# Altium schematic symbol library USB_HUB_VL813.SCHLIB: 27 symbols
Pins are listed as number, name and electrical type; pins without a type are passive.

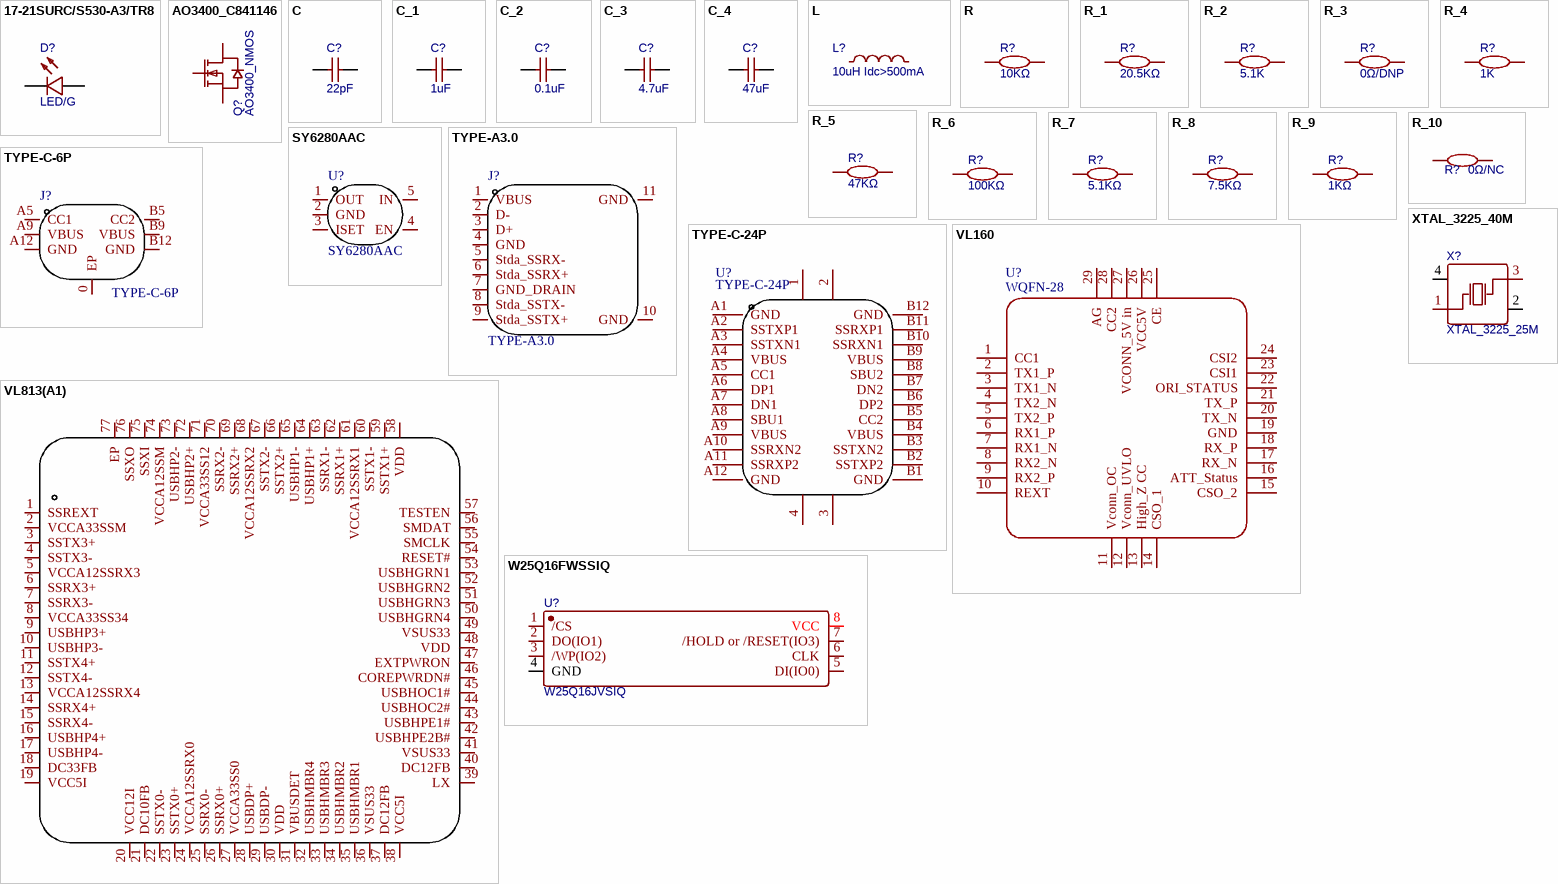
[diagram p0: symbols 17-21SURC/S530-A3/TR8 to XTAL_3225_40M]

## 17-21SURC/S530-A3/TR8
designator D?, comment LED/G
BOM_Manufacturer: EVERLIGHT; BOM_Manufacturer Part: 17-21SURC/S530-A3/TR8; BOM_Supplier: LCSC; BOM_Supplier Part: C72037; BOM_JLCPCB Part Class: Extended Part; spicePre: L; spiceSymbolName: 17-21SURC/S530-A3/TR8
footprint LED0805-R-RD
pins: 1 A, 2 C

## AO3400_C841146
designator Q?, comment AO3400_NMOS
BOM_Manufacturer: LGE; BOM_Manufacturer Part: AO3400; Contributor: LCSC; BOM_Supplier: LCSC; BOM_Supplier Part: C841146; BOM_JLCPCB Part Class: Extended Part; spicePre: Q; spiceSymbolName: AO3400_C841146
footprint SOT-23-3_L2.9-W1.3-P1.90-LS2.4-BR
pins: 1 G, 2 S, 3 D

## C
designator C?, comment 22pF
BOM_Manufacturer: FH; BOM_Manufacturer Part: 0603F104M500NT; nameAlias: Capacitance; BOM_Supplier: LCSC; BOM_Supplier Part: C42998; BOM_JLCPCB Part Class: Extended Part; spicePre: C; spiceSymbolName: 0603F104M500NT
footprint C0603
footprint C0805
pins: 1, 2

## C_1
designator C?, comment 1uF
BOM_Manufacturer: FH; BOM_Manufacturer Part: 0603F104M500NT; nameAlias: Capacitance; BOM_Supplier: LCSC; BOM_Supplier Part: C42998; BOM_JLCPCB Part Class: Extended Part; spicePre: C; spiceSymbolName: 0603F104M500NT
footprint C0603
footprint C0805
pins: 1, 2

## C_2
designator C?, comment 0.1uF
BOM_Manufacturer: FH; BOM_Manufacturer Part: 0603F104M500NT; nameAlias: Capacitance; BOM_Supplier: LCSC; BOM_Supplier Part: C42998; BOM_JLCPCB Part Class: Extended Part; spicePre: C; spiceSymbolName: 0603F104M500NT
footprint C0603
footprint C0805
pins: 1, 2

## C_3
designator C?, comment 4.7uF
BOM_Manufacturer: FH; BOM_Manufacturer Part: 0603F104M500NT; nameAlias: Capacitance; BOM_Supplier: LCSC; BOM_Supplier Part: C42998; BOM_JLCPCB Part Class: Extended Part; spicePre: C; spiceSymbolName: 0603F104M500NT
footprint C0603
footprint C0805
pins: 1, 2

## C_4
designator C?, comment 47uF
BOM_Manufacturer: FH; BOM_Manufacturer Part: 0603F104M500NT; nameAlias: Capacitance; BOM_Supplier: LCSC; BOM_Supplier Part: C42998; BOM_JLCPCB Part Class: Extended Part; spicePre: C; spiceSymbolName: 0603F104M500NT
footprint C5*5
footprint C0805
pins: 1, 2

## L
designator L?, comment 10uH Idc>500mA
BOM_Manufacturer Part: VHF160808H33NJT; BOM_Manufacturer: FH; nameAlias: Inductance; BOM_Supplier: LCSC; BOM_Supplier Part: C90209; BOM_JLCPCB Part Class: Extended Part; spicePre: L; spiceSymbolName: VHF160808H33NJT
footprint L0603
footprint Inductor
pins: 1, 2

## R
designator R?, comment 10KΩ
BOM_Manufacturer: Guangdong Fenghua Advanced Tech; BOM_Manufacturer Part: RS-03K1002FT; Resistance (Ohms): 10K; nameAlias: Resistance; Contributor: LCSC; BOM_Supplier: LCSC; BOM_Supplier Part: C115324; spicePre: R; spiceSymbolName: RS-03K1002FT
footprint R0603
footprint R0805
pins: 1, 2

## R_1
designator R?, comment 20.5KΩ
BOM_Manufacturer: Guangdong Fenghua Advanced Tech; BOM_Manufacturer Part: RS-03K1002FT; Resistance (Ohms): 10K; nameAlias: Resistance; Contributor: LCSC; BOM_Supplier: LCSC; BOM_Supplier Part: C115324; spicePre: R; spiceSymbolName: RS-03K1002FT
footprint R0603
footprint R0805
pins: 1, 2

## R_2
designator R?, comment 5.1K
BOM_Manufacturer: Guangdong Fenghua Advanced Tech; BOM_Manufacturer Part: RS-03K1002FT; Resistance (Ohms): 10K; nameAlias: Resistance; Contributor: LCSC; BOM_Supplier: LCSC; BOM_Supplier Part: C115324; spicePre: R; spiceSymbolName: RS-03K1002FT
footprint R0603
footprint R0805
pins: 1, 2

## R_3
designator R?, comment 0Ω/DNP
BOM_Manufacturer: Guangdong Fenghua Advanced Tech; BOM_Manufacturer Part: RS-03K1002FT; Resistance (Ohms): 10K; nameAlias: Resistance; Contributor: LCSC; BOM_Supplier: LCSC; BOM_Supplier Part: C115324; spicePre: R; spiceSymbolName: RS-03K1002FT
footprint R0603
footprint R0805
pins: 1, 2

## R_4
designator R?, comment 1K
BOM_Manufacturer: Guangdong Fenghua Advanced Tech; BOM_Manufacturer Part: RS-03K1002FT; Resistance (Ohms): 10K; nameAlias: Resistance; Contributor: LCSC; BOM_Supplier: LCSC; BOM_Supplier Part: C115324; spicePre: R; spiceSymbolName: RS-03K1002FT
footprint R0603
footprint R0805
pins: 1, 2

## R_5
designator R?, comment 47KΩ
BOM_Manufacturer: Guangdong Fenghua Advanced Tech; BOM_Manufacturer Part: RS-03K1002FT; Resistance (Ohms): 10K; nameAlias: Resistance; Contributor: LCSC; BOM_Supplier: LCSC; BOM_Supplier Part: C115324; spicePre: R; spiceSymbolName: RS-03K1002FT
footprint R0603
footprint R0805
pins: 1, 2

## R_6
designator R?, comment 100KΩ
BOM_Manufacturer: Guangdong Fenghua Advanced Tech; BOM_Manufacturer Part: RS-03K1002FT; Resistance (Ohms): 10K; nameAlias: Resistance; Contributor: LCSC; BOM_Supplier: LCSC; BOM_Supplier Part: C115324; spicePre: R; spiceSymbolName: RS-03K1002FT
footprint R0603
footprint R0805
pins: 1, 2

## R_7
designator R?, comment 5.1KΩ
BOM_Manufacturer: Guangdong Fenghua Advanced Tech; BOM_Manufacturer Part: RS-03K1002FT; Resistance (Ohms): 10K; nameAlias: Resistance; Contributor: LCSC; BOM_Supplier: LCSC; BOM_Supplier Part: C115324; spicePre: R; spiceSymbolName: RS-03K1002FT
footprint R0603
footprint R0805
pins: 1, 2

## R_8
designator R?, comment 7.5KΩ
BOM_Manufacturer: Guangdong Fenghua Advanced Tech; BOM_Manufacturer Part: RS-03K1002FT; Resistance (Ohms): 10K; nameAlias: Resistance; Contributor: LCSC; BOM_Supplier: LCSC; BOM_Supplier Part: C115324; spicePre: R; spiceSymbolName: RS-03K1002FT
footprint R0603
footprint R0805
pins: 1, 2

## R_9
designator R?, comment 1KΩ
BOM_Manufacturer: Guangdong Fenghua Advanced Tech; BOM_Manufacturer Part: RS-03K1002FT; Resistance (Ohms): 10K; nameAlias: Resistance; Contributor: LCSC; BOM_Supplier: LCSC; BOM_Supplier Part: C115324; spicePre: R; spiceSymbolName: RS-03K1002FT
footprint R0603
footprint R0805
pins: 1, 2

## R_10
designator R?, comment 0Ω/NC
BOM_Manufacturer: Guangdong Fenghua Advanced Tech; BOM_Manufacturer Part: RS-03K1002FT; Resistance (Ohms): 10K; nameAlias: Resistance; Contributor: LCSC; BOM_Supplier: LCSC; BOM_Supplier Part: C115324; spicePre: R; spiceSymbolName: RS-03K1002FT
footprint R0603
footprint R0805
pins: 1, 2

## SY6280AAC
designator U?
footprint SOT-23-5_L3.0-W1.7-P0.95-LS2.8-BR
pins: 1 OUT, 2 GND, 3 ISET, 4 EN, 5 IN

## TYPE-A3.0
designator J?
footprint TYPE-A3.0
pins: 1 VBUS, 2 D-, 3 D+, 4 GND, 5 Stda_SSRX-, 6 Stda_SSRX+, 7 GND_DRAIN, 8 Stda_SSTX-, 9 Stda_SSTX+, 10 GND, 11 GND

## TYPE-C-6P
designator J?
footprint TYPE-C-6P
pins: 0 EP, A5 CC1, A9 VBUS, A12 GND, B5 CC2, B9 VBUS, B12 GND

## TYPE-C-24P
designator U?
Parameter 1: *
footprint TYPE-C-24P
pins: 1, 2, 3, 4, A1 GND, A2 SSTXP1, A3 SSTXN1, A4 VBUS, A5 CC1, A6 DP1, A7 DN1, A8 SBU1, A9 VBUS, A10 SSRXN2, A11 SSRXP2, A12 GND, B1 GND, B2 SSTXP2, B3 SSTXN2, B4 VBUS, B5 CC2, B6 DP2, B7 DN2, B8 SBU2, B9 VBUS, B10 SSRXN1, B11 SSRXP1, B12 GND

## VL160
designator U?, comment WQFN-28
footprint WQFN-28
footprint WQFN-28
pins: 1 CC1, 2 TX1_P, 3 TX1_N, 4 TX2_N, 5 TX2_P, 6 RX1_P, 7 RX1_N, 8 RX2_N, 9 RX2_P, 10 REXT, 11 Vconn_OC, 12 Vconn_UVLO, 13 High_Z CC, 14 CSO_1, 15 CSO_2, 16 ATT_Status, 17 RX_N, 18 RX_P, 19 GND, 20 TX_N, 21 TX_P, 22 ORI_STATUS, 23 CSI1, 24 CSI2, 25 CE, 26 VCC5V, 27 VCONN_5V in, 28 CC2, 29 AG

## VL813(A1)
designator U?  (value not drawn)
Manufacturer: VIA(台湾威盛电子); Symbol: VL813(A1)_C209755; Add into BOM: yes; Name: VL813(A1); Device: VL813(A1); LCSC Part Name: VL813(A1); Supplier Part: C209755; Manufacturer Part: VL813(A1); Supplier Footprint: QFN-76_9x9x04P; JLCPCB Part Class: Extended Part; Datasheet: https://atta.szlcsc.com/upload/public/pdf/source/20180420/C209755_1BF0F45DD04BFA941B7FD492504FA511.pdf; Supplier: LCSC; Convert to PCB: yes; Type: -; Protocol: -; Number of Drivers/Receivers: -; Data Rate: -; Supply Voltage: -
footprint QFN-76
pins: 1 SSREXT, 2 VCCA33SSM, 3 SSTX3+, 4 SSTX3-, 5 VCCA12SSRX3, 6 SSRX3+, 7 SSRX3-, 8 VCCA33SS34, 9 USBHP3+, 10 USBHP3-, 11 SSTX4+, 12 SSTX4-, 13 VCCA12SSRX4, 14 SSRX4+, 15 SSRX4-, 16 USBHP4+, 17 USBHP4-, 18 DC33FB, 19 VCC5I, 20 VCC12I, 21 DC10FB, 22 SSTX0-, 23 SSTX0+, 24 VCCA12SSRX0, 25 SSRX0-, 26 SSRX0+, 27 VCCA33SS0, 28 USBDP+, 29 USBDP-, 30 VDD, 31 VBUSDET, 32 USBHMBR4, 33 USBHMBR3, 34 USBHMBR2, 35 USBHMBR1, 36 VSUS33, 37 DC12FB, 38 VCC5I, 39 LX, 40 DC12FB, 41 VSUS33, 42 USBHPE2B#, 43 USBHPE1#, 44 USBHOC2#, 45 USBHOC1#, 46 COREPWRDN#, 47 EXTPWRON, 48 VDD, 49 VSUS33, 50 USBHGRN4, 51 USBHGRN3, 52 USBHGRN2, 53 USBHGRN1, 54 RESET#, 55 SMCLK, 56 SMDAT, 57 TESTEN, 58 VDD, 59 SSTX1+, 60 SSTX1-, 61 VCCA12SSRX1, 62 SSRX1+, 63 SSRX1-, 64 USBHP1+, 65 USBHP1-, 66 SSTX2+, 67 SSTX2-, 68 VCCA12SSRX2, 69 SSRX2+, 70 SSRX2-, 71 VCCA33SS12, 72 USBHP2+, 73 USBHP2-, 74 VCCA12SSM, 75 SSXI, 76 SSXO, 77 EP

## W25Q16FWSSIQ
designator U?, comment W25Q16JVSIQ
BOM_Manufacturer: Winbond Elec; BOM_Manufacturer Part: W25Q16FWSSIQ; Contributor: LCSC; BOM_Supplier: LCSC; BOM_Supplier Part: C377629; BOM_JLCPCB Part Class: Extended Part; spicePre: U; spiceSymbolName: W25Q16FWSSIQ
footprint SOIC-8_L5.3-W5.3-P1.27-LS8.0-BL
pins: 1 /CS, 2 DO(IO1), 3 /WP(IO2), 4 GND, 5 DI(IO0), 6 CLK, 7 /HOLD or /RESET(IO3), 8 VCC

## XTAL_3225_40M
designator X?, comment XTAL_3225_25M
BOM_Manufacturer: YXC; BOM_Manufacturer Part: X322540MPB4SI; nameAlias: Frequency; BOM_Supplier: LCSC; BOM_Supplier Part: C9010; BOM_JLCPCB Part Class: Extended Part; spicePre: X; spiceSymbolName: X322540MPB4SI
footprint OSC-SMD_4P-L3.2-W2.5-BL_SIT8008BI
pins: 1 OSC1, 2 GND, 3 OSC2, 4 GND